# EAGLE library part ADE7880 (library Analog Devices)
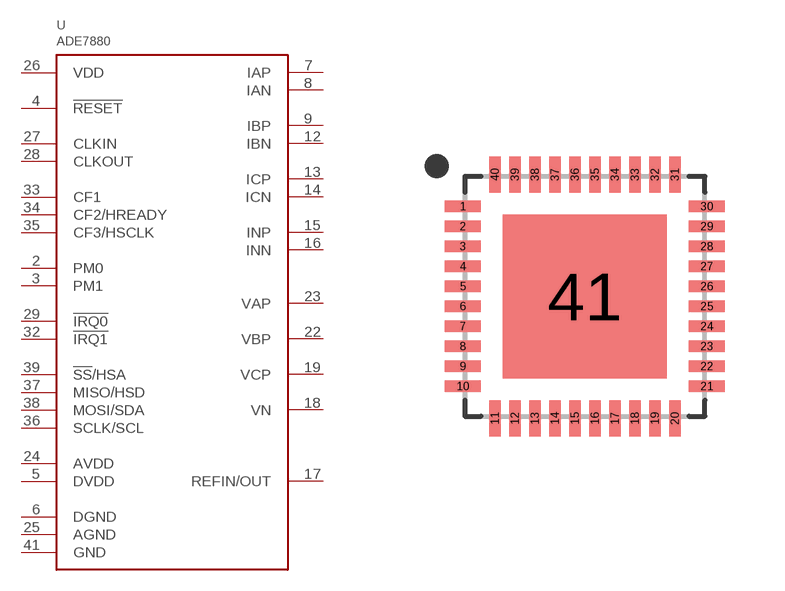
[diagram p37: symbol with the pads of QFN40; footprint QFN40]

Designator prefix U

## ADE7880  [QFN40]
2  PM0
3  PM1
4  !RESET
5  DVDD
6  DGND
7  IAP
8  IAN
9  IBP
12  IBN
13  ICP
14  ICN
15  INP
16  INN
17  REFIN/OUT
18  VN
19  VCP
22  VBP
23  VAP
24  AVDD
25  AGND
26  VDD
27  CLKIN
28  CLKOUT
29  !IRQ0
32  !IRQ1
33  CF1
34  CF2/HREADY
35  CF3/HSCLK
36  SCLK/SCL
37  MISO/HSD
38  MOSI/SDA
39  !SS!/HSA
41  GND

## Footprint QFN40 (pad centres in mm)
smd 0.9 x 0.29: 1 -3.05,2.25; 2 -3.05,1.75; 3 -3.05,1.25; 4 -3.05,0.75; 5 -3.05,0.25; 6 -3.05,-0.25; 7 -3.05,-0.75; 8 -3.05,-1.25; 9 -3.05,-1.75; 10 -3.05,-2.25; 21 3.05,-2.25; 22 3.05,-1.75; 23 3.05,-1.25; 24 3.05,-0.75; 25 3.05,-0.25; 26 3.05,0.25; 27 3.05,0.75; 28 3.05,1.25; 29 3.05,1.75; 30 3.05,2.25
smd 0.29 x 0.9: 11 -2.25,-3.05; 12 -1.75,-3.05; 13 -1.25,-3.05; 14 -0.75,-3.05; 15 -0.25,-3.05; 16 0.25,-3.05; 17 0.75,-3.05; 18 1.25,-3.05; 19 1.75,-3.05; 20 2.25,-3.05; 31 2.25,3.05; 32 1.75,3.05; 33 1.25,3.05; 34 0.75,3.05; 35 0.25,3.05; 36 -0.25,3.05; 37 -0.75,3.05; 38 -1.25,3.05; 39 -1.75,3.05; 40 -2.25,3.05
smd 4.1 x 4.1: 41 0,0